# Altium schematic symbol library VREF(1.25V, 1.7-5.5V, 30mA, 0.15, SOT23-3).SchLib: 1 symbol
Pins are listed as number, name and electrical type; pins without a type are passive.

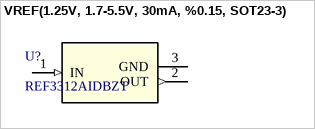
[diagram p0: symbol VREF(1.25V, 1.7-5.5V, 30mA, %0.15, SOT23-3)]

## VREF(1.25V, 1.7-5.5V, 30mA, %0.15, SOT23-3)
designator U?, comment REF3312AIDBZT
1.25-V, 30-ppm/Â°C drift, 3.9-ÂµA, 3-pin SOT-23, 3-pin SC70, 8-pin UQFN voltage reference 3-SOT-23 -40 to 125; Manufacturer: Texas Instruments; Manufacturer_PN: REF3312AIDBZT; Package: SOT23-3; Datasheet: https://www.ti.com/lit/ds/symlink/ref3312.pdf?HQS=dis-dk-null-digikeymode-dsf-pf-null-wwe&ts=1765062980095&ref_url=https%253A%252F%252Fwww.ti.com%252Fgeneral%252Fdocs%252Fsuppproductinfo.tsp%253FdistId%253D10%2526gotoUrl%253Dhttps%253A%252F%252Fwww.ti.com%252Flit%252Fgpn%252Fref3312; Digikey_Link: https://www.digikey.it/en/products/detail/texas-instruments/REF3312AIDBZT/1681869
footprint DBZ3
pins: 1 IN (in), 2 OUT (out), 3 GND (power)